# Altium integrated library USB_DVI_HDMI_CONNECTOR.IntLib: 14 symbols
Pins are listed as number, name and electrical type; pins without a type are passive.

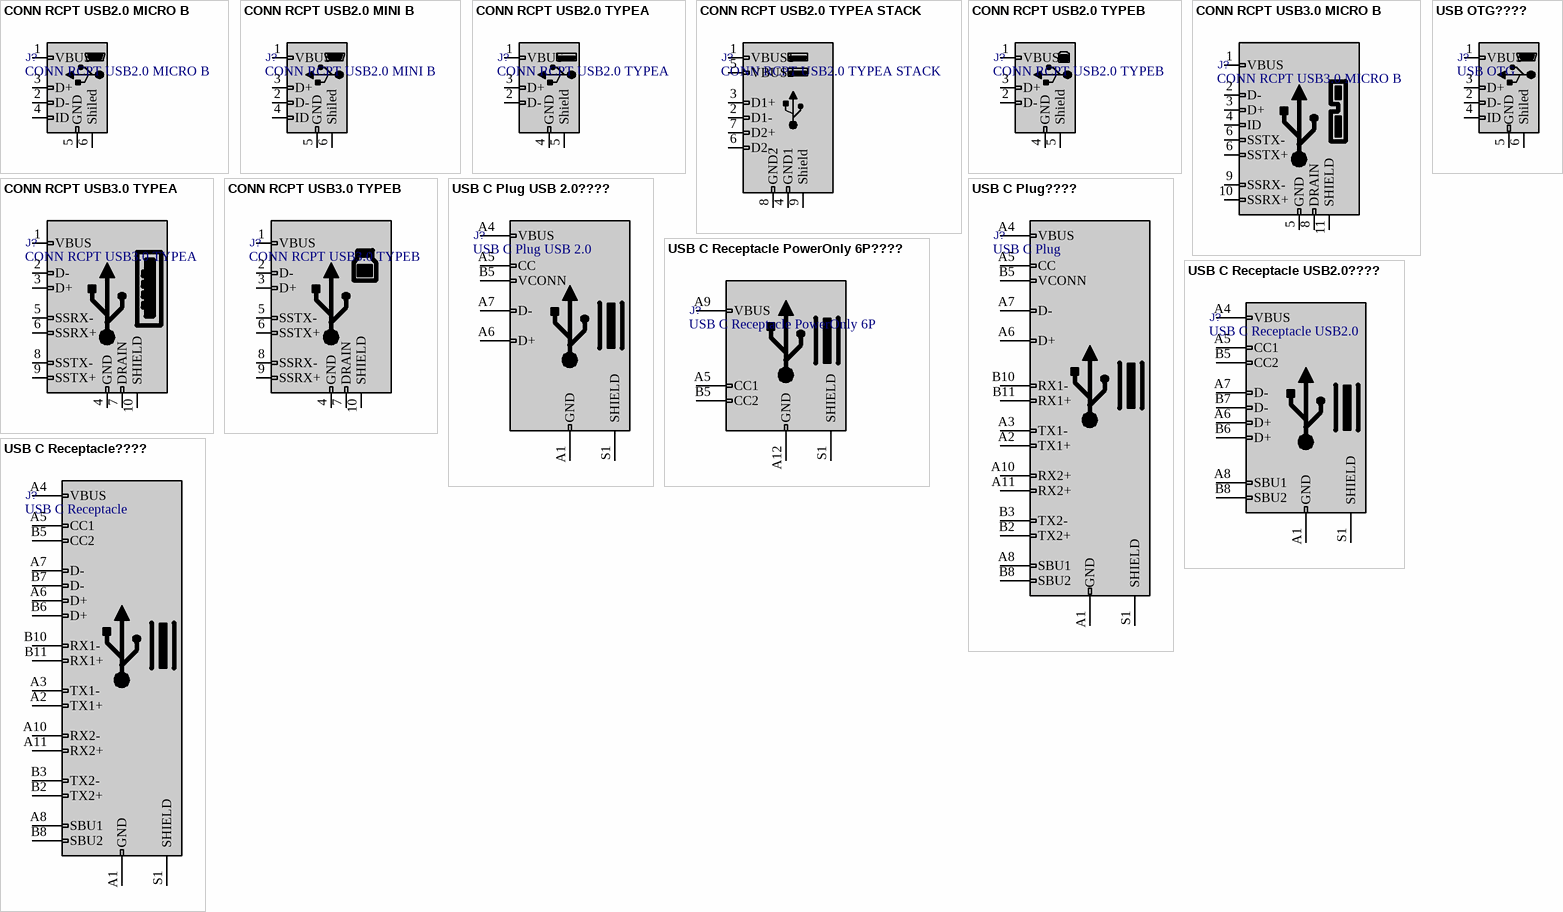
[diagram p0: symbols CONN RCPT USB2.0 MICRO B to USB OTG????]

## CONN RCPT USB2.0 MICRO B
designator J?
Horizontal SMT Type B Version 2.0 MicroUSB Connector Socket; 30 V ac; 3A WR-COM; Manufacturer: Wurth Electronics; Manufacturer Part Number: 629105150521; Connector Type: USB; Number of Contacts: 5; Gender: Receptacle; Number of Ports: 1; Mating Cycles: 10000; Shielding: Shielded; Supplier: Digi-Key; Supplier Part Number: 732-5960-1-ND; RoHS: Yes; Category: USB Connectors; Stock: 6419; Pricing: 1=2.21, 10=2.027, 50=1.877, 100=1.726 (USD); Mounting Technology: Surface Mount,Horizontal,Through Hole; Contact Material: Copper Alloy; Contact Plating: Gold; Insulation Color: Black; Packaging: Cut Tape; Termination: Solder; Orientation: Right Angle; Series: WR-COM; USB Standard: USB 2.0; Features: Shielded; RoHS Compliant: Yes; Flammability Rating: UL94 V-0; Reach SVHC Compliant: Unknown; Lead Free: Lead Free; ComponentLink1URL: https://datasheet.ciiva.com/48416/629105150521-48416058.pdf?src-supplier=Distrelec; ComponentLink1Description: https://datasheet.ciiva.com/48416/629105150521-48416058.pdf?src-supplier=Distrelec
footprint CONN RCPT USB2.0 MICRO B
pins: 1 VBUS, 2 D-, 3 D+, 4 ID, 5 GND, 6 Shiled

## CONN RCPT USB2.0 MINI B
designator J?
ki_keywords: connector USB mini; ki_description: USB Mini Type B connector; ki_fp_filters: USB*; Datasheet: ~
pins: 1 VBUS, 2 D-, 3 D+, 4 ID, 5 GND, 6 Shiled

## CONN RCPT USB2.0 TYPEA
designator J?
ki_keywords: connector USB; ki_description: USB Type A connector; ki_fp_filters: USB*; Datasheet: ~
pins: 1 VBUS, 2 D-, 3 D+, 4 GND, 5 Shield

## CONN RCPT USB2.0 TYPEA STACK
designator J?
ki_keywords: connector USB; ki_description: USB Type A connector, stacked; ki_fp_filters: USB*; Datasheet: ~
pins: 1 VBUS1, 2 D1-, 3 D1+, 4 GND1, 5 VBUS2, 6 D2-, 7 D2+, 8 GND2, 9 Shield

## CONN RCPT USB2.0 TYPEB
designator J?
ki_keywords: connector USB; ki_description: USB Type B connector; ki_fp_filters: USB*; Datasheet: ~
pins: 1 VBUS, 2 D-, 3 D+, 4 GND, 5 Shield

## CONN RCPT USB3.0 MICRO B
designator J?
ki_keywords: usb universal serial bus; ki_description: USB 3.0 Micro-B connector; Datasheet: ~
pins: 1 VBUS, 2 D-, 3 D+, 4 ID, 5 GND, 6 SSTX-, 6 SSTX+, 8 DRAIN, 9 SSRX-, 10 SSRX+, 11 SHIELD

## CONN RCPT USB3.0 TYPEA
designator J?
ki_keywords: usb universal serial bus; ki_description: USB 3.0 A connector; Datasheet: ~
pins: 1 VBUS, 2 D-, 3 D+, 4 GND, 5 SSRX-, 6 SSRX+, 7 DRAIN, 8 SSTX-, 9 SSTX+, 10 SHIELD

## CONN RCPT USB3.0 TYPEB
designator J?
ki_keywords: usb universal serial bus; ki_description: USB 3.0 B connector; Datasheet: ~
pins: 1 VBUS, 2 D-, 3 D+, 4 GND, 5 SSTX-, 6 SSTX+, 7 DRAIN, 8 SSRX-, 9 SSRX+, 10 SHIELD

## USB C Plug USB 2.0????
designator J?, comment USB C Plug USB 2.0
ki_keywords: usb universal serial bus type-C USB2.0; ki_description: USB 2.0-only Type-C Plug connector; ki_fp_filters: USB*C*Plug*; Datasheet: https://www.usb.org/sites/default/files/documents/usb_type-c.zip
pins: A1 GND, A4 VBUS, A5 CC, A6 D+, A7 D-, A9 VBUS hidden, A12 GND hidden, B1 GND hidden, B4 VBUS hidden, B5 VCONN, B9 VBUS hidden, B12 GND hidden, S1 SHIELD

## USB C Plug????
designator J?, comment USB C Plug
ki_keywords: usb universal serial bus; ki_description: USB Type-C Plug connector; ki_fp_filters: USB*C*Plug*; Datasheet: https://www.usb.org/sites/default/files/documents/usb_type-c.zip
pins: A1 GND, A2 TX1+, A3 TX1-, A4 VBUS, A5 CC, A6 D+, A7 D-, A8 SBU1, A9 VBUS hidden, A10 RX2+, A11 RX2+, A12 GND hidden, B1 GND hidden, B2 TX2+, B3 TX2-, B4 VBUS hidden, B5 VCONN, B8 SBU2, B9 VBUS hidden, B10 RX1-, B11 RX1+, B12 GND hidden, S1 SHIELD

## USB C Receptacle PowerOnly 6P????
designator J?, comment USB C Receptacle PowerOnly 6P
ki_keywords: usb universal serial bus type-C power-only charging-only 6P 6C; ki_description: USB Power-Only 6P Type-C Receptacle connector; ki_fp_filters: USB*C*Receptacle*; Datasheet: https://www.usb.org/sites/default/files/documents/usb_type-c.zip
pins: A5 CC1, A9 VBUS, A12 GND, B5 CC2, B9 VBUS hidden, B12 GND hidden, S1 SHIELD

## USB C Receptacle USB2.0????
designator J?, comment USB C Receptacle USB2.0
ki_keywords: usb universal serial bus type-C USB2.0; ki_description: USB 2.0-only Type-C Receptacle connector; ki_fp_filters: USB*C*Receptacle*; Datasheet: https://www.usb.org/sites/default/files/documents/usb_type-c.zip
pins: A1 GND, A4 VBUS, A5 CC1, A6 D+, A7 D-, A8 SBU1, A9 VBUS hidden, A12 GND hidden, B1 GND hidden, B4 VBUS hidden, B5 CC2, B6 D+, B7 D-, B8 SBU2, B9 VBUS hidden, B12 GND hidden, S1 SHIELD

## USB C Receptacle????
designator J?, comment USB C Receptacle
ki_keywords: usb universal serial bus type-C full-featured; ki_description: USB Full-Featured Type-C Receptacle connector; ki_fp_filters: USB*C*Receptacle*; Datasheet: https://www.usb.org/sites/default/files/documents/usb_type-c.zip
pins: A1 GND, A2 TX1+, A3 TX1-, A4 VBUS, A5 CC1, A6 D+, A7 D-, A8 SBU1, A9 VBUS hidden, A10 RX2-, A11 RX2+, A12 GND hidden, B1 GND hidden, B2 TX2+, B3 TX2-, B4 VBUS hidden, B5 CC2, B6 D+, B7 D-, B8 SBU2, B9 VBUS hidden, B10 RX1-, B11 RX1+, B12 GND hidden, S1 SHIELD

## USB OTG????
designator J?, comment USB OTG
ki_keywords: connector USB; ki_description: USB mini/micro connector; ki_fp_filters: USB*; Datasheet: ~
pins: 1 VBUS, 2 D-, 3 D+, 4 ID, 5 GND, 6 Shiled